# Altium footprint library DIOC4522X116N.PcbLib: 1 footprints
Each footprint in its own frame and in the unit in brackets; x right, y up, seen from the top. Pads: shape width x height; smd on the part's side, far side on the other; paste and mask are expansions set on the pad; w line width, h text height; cw(c..) or ccw(c..) is an arc to the next point about the centre after c.
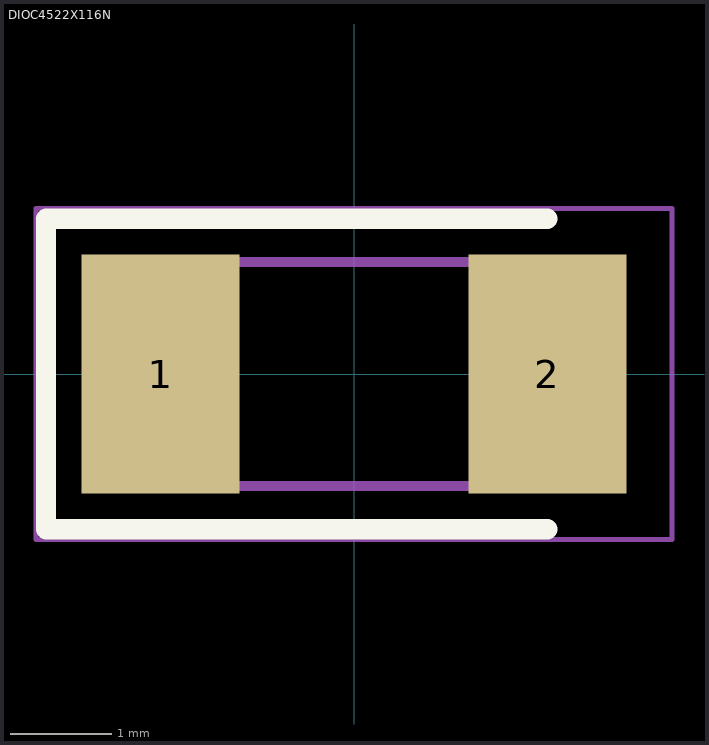
[diagram p0: the footprint, top view; thin cyan lines are the x and y axes]

## DIOC4522X116N [mm]
pads (2):
  rect 1.55x2.35 smd: 1(-1.9,0) 2(1.9,0)
Top Overlay:
  lines w0.2: 1.9,-1.525 -3.025,-1.525 -3.025,1.525 1.9,1.525
Mechanical 15:
  lines w0.1: -2.25,0.325 -1.475,1.1 ; -2.25,-1.1 2.25,-1.1 2.25,1.1 -2.25,1.1 -2.25,-1.1
Mechanical 20:
  lines w0.05: -3.125,-1.625 3.125,-1.625 3.125,1.625 -3.125,1.625 -3.125,-1.625
3D body "ACGRAT103L-HF.stp": height 5.8, standoff -4.65, extent -10,-3.376 10,3.376